# Altium schematic symbol library MB0030A.01.A.1.SchLib: 1 symbol
Pins are listed as number, name and electrical type; pins without a type are passive.

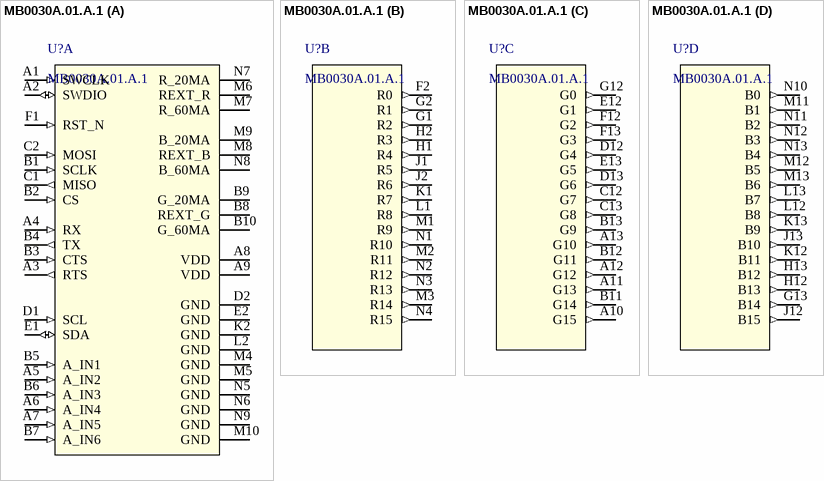
[diagram p0: symbol MB0030A.01.A.1]

## MB0030A.01.A.1
designator U?
Module Socket - 1mm Pitch, 88-Pin, 14x14mm
part A pins: A1 SWCLK (in), A2 SWDIO (io), A3 RTS (out), A4 RX (in), A5 A_IN2 (in), A6 A_IN4 (in), A7 A_IN5 (in), A8 VDD (power), A9 VDD (power), B1 SCLK (in), B2 CS (in), B3 CTS (in), B4 TX (out), B5 A_IN1 (in), B6 A_IN3 (in), B7 A_IN6 (in), B8 REXT_G, B9 G_20MA, B10 G_60MA, C1 MISO (out), C2 MOSI (in), D1 SCL (in), D2 GND, E1 SDA (io), E2 GND, F1 RST_N (in), K2 GND, L2 GND, M4 GND, M5 GND, M6 REXT_R, M7 R_60MA, M8 REXT_B, M9 B_20MA, M10 GND, N5 GND, N6 GND, N7 R_20MA, N8 B_60MA, N9 GND
part B pins: F2 R0 (out), G1 R2 (out), G2 R1 (out), H1 R4 (out), H2 R3 (out), J1 R5 (out), J2 R6 (out), K1 R7 (out), L1 R8 (out), M1 R9 (out), M2 R11 (out), M3 R14 (out), N1 R10 (out), N2 R12 (out), N3 R13 (out), N4 R15 (out)
part C pins: A10 G15 (out), A11 G13 (out), A12 G12 (out), A13 G10 (out), B11 G14 (out), B12 G11 (out), B13 G9 (out), C12 G7 (out), C13 G8 (out), D12 G4 (out), D13 G6 (out), E12 G1 (out), E13 G5 (out), F12 G2 (out), F13 G3 (out), G12 G0 (out)
part D pins: G13 B14 (out), H12 B13 (out), H13 B12 (out), J12 B15 (out), J13 B10 (out), K12 B11 (out), K13 B9 (out), L12 B8 (out), L13 B7 (out), M11 B1 (out), M12 B5 (out), M13 B6 (out), N10 B0 (out), N11 B2 (out), N12 B3 (out), N13 B4 (out)